# EAGLE library part 99 (library display-lcd-lxd)
20 Dot-Matrix Digit, .30" (7.62) Multiplexed Display Additional Descriptors: none
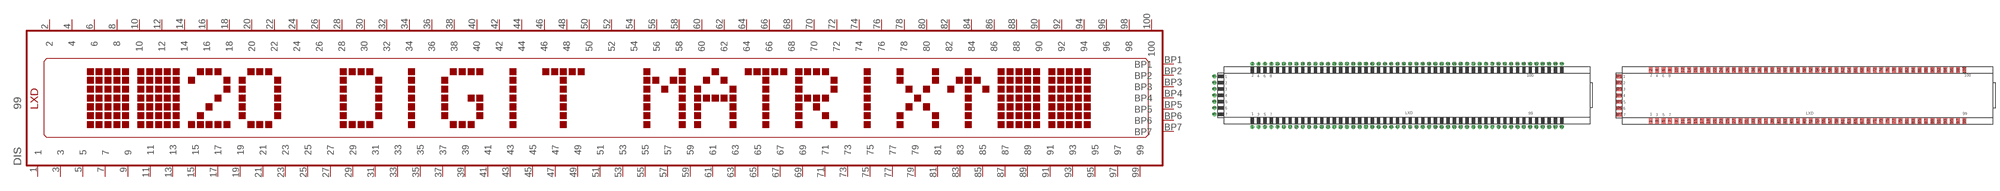
[diagram p42: symbol with the pads of 99-D; footprints 99-D, 99-E]

Designator prefix DIS

## 99DIP  [99-D]
1  1  pas
2  2  pas
3  3  pas
4  4  pas
5  5  pas
6  6  pas
7  7  pas
8  8  pas
9  9  pas
10  10  pas
11  11  pas
12  12  pas
13  13  pas
14  14  pas
15  15  pas
16  16  pas
17  17  pas
18  18  pas
19  19  pas
20  20  pas
21  21  pas
22  22  pas
23  23  pas
24  24  pas
25  25  pas
26  26  pas
27  27  pas
28  28  pas
29  29  pas
30  30  pas
31  31  pas
32  32  pas
33  33  pas
34  34  pas
35  35  pas
36  36  pas
37  37  pas
38  38  pas
39  39  pas
40  40  pas
41  41  pas
42  42  pas
43  43  pas
44  44  pas
45  45  pas
46  46  pas
47  47  pas
48  48  pas
49  49  pas
50  50  pas
51  51  pas
52  52  pas
53  53  pas
54  54  pas
55  55  pas
56  56  pas
57  57  pas
58  58  pas
59  59  pas
60  60  pas
61  61  pas
62  62  pas
63  63  pas
64  64  pas
65  65  pas
66  66  pas
67  67  pas
68  68  pas
69  69  pas
70  70  pas
71  71  pas
72  72  pas
73  73  pas
74  74  pas
75  75  pas
76  76  pas
77  77  pas
78  78  pas
79  79  pas
80  80  pas
81  81  pas
82  82  pas
83  83  pas
84  84  pas
85  85  pas
86  86  pas
87  87  pas
88  88  pas
89  89  pas
90  90  pas
91  91  pas
92  92  pas
93  93  pas
94  94  pas
95  95  pas
96  96  pas
97  97  pas
98  98  pas
99  99  pas
100  100  pas
BP1  BP1  pas
BP2  BP2  pas
BP3  BP3  pas
BP4  BP4  pas
BP5  BP5  pas
BP6  BP6  pas
BP7  BP7  pas

## 99SMD  [99-E]
Pads as for 99-D

## Footprint 99-D (pad centres in mm)
Glass Size: 5.90" x 0.90" &nbsp &nbsp &nbsp &nbsp &nbsp &nbsp &nbsp &nbsp &nbsp (149.86 x 22.86)
drill 0.813 pad 1.6: 1 -62.23,-12.7; BP1 -77.47,7.62
drill 0.813 pad 1.6 octagon: 2 -62.23,12.7; 3 -59.69,-12.7; 4 -59.69,12.7; 5 -57.15,-12.7; 6 -57.15,12.7; 7 -54.61,-12.7; 8 -54.61,12.7; 9 -52.07,-12.7; 10 -52.07,12.7; 11 -49.53,-12.7; 12 -49.53,12.7; 13 -46.99,-12.7; 14 -46.99,12.7; 15 -44.45,-12.7; 16 -44.45,12.7; 17 -41.91,-12.7; 18 -41.91,12.7; 19 -39.37,-12.7; 20 -39.37,12.7; 21 -36.83,-12.7; 22 -36.83,12.7; 23 -34.29,-12.7; 24 -34.29,12.7; 25 -31.75,-12.7; 26 -31.75,12.7; 27 -29.21,-12.7; 28 -29.21,12.7; 29 -26.67,-12.7; 30 -26.67,12.7; 31 -24.13,-12.7; 32 -24.13,12.7; 33 -21.59,-12.7; 34 -21.59,12.7; 35 -19.05,-12.7; 36 -19.05,12.7; 37 -16.51,-12.7; 38 -16.51,12.7; 39 -13.97,-12.7; 40 -13.97,12.7; 41 -11.43,-12.7; 42 -11.43,12.7; 43 -8.89,-12.7; 44 -8.89,12.7; 45 -6.35,-12.7; 46 -6.35,12.7; 47 -3.81,-12.7; 48 -3.81,12.7; 49 -1.27,-12.7; 50 -1.27,12.7; 51 1.27,-12.7; 52 1.27,12.7; 53 3.81,-12.7; 54 3.81,12.7; 55 6.35,-12.7; 56 6.35,12.7; 57 8.89,-12.7; 58 8.89,12.7; 59 11.43,-12.7; 60 11.43,12.7; 61 13.97,-12.7; 62 13.97,12.7; 63 16.51,-12.7; 64 16.51,12.7; 65 19.05,-12.7; 66 19.05,12.7; 67 21.59,-12.7; 68 21.59,12.7; 69 24.13,-12.7; 70 24.13,12.7; 71 26.67,-12.7; 72 26.67,12.7; 73 29.21,-12.7; 74 29.21,12.7; 75 31.75,-12.7; 76 31.75,12.7; 77 34.29,-12.7; 78 34.29,12.7; 79 36.83,-12.7; 80 36.83,12.7; 81 39.37,-12.7; 82 39.37,12.7; 83 41.91,-12.7; 84 41.91,12.7; 85 44.45,-12.7; 86 44.45,12.7; 87 46.99,-12.7; 88 46.99,12.7; 89 49.53,-12.7; 90 49.53,12.7; 91 52.07,-12.7; 92 52.07,12.7; 93 54.61,-12.7; 94 54.61,12.7; 95 57.15,-12.7; 96 57.15,12.7; 97 59.69,-12.7; 98 59.69,12.7; 99 62.23,-12.7; 100 62.23,12.7; BP2 -77.47,5.08; BP3 -77.47,2.54; BP4 -77.47,0; BP5 -77.47,-2.54; BP6 -77.47,-5.08; BP7 -77.47,-7.62

## Footprint 99-E (pad centres in mm)
Glass Size: 5.90" x 0.90" &nbsp &nbsp &nbsp &nbsp &nbsp &nbsp &nbsp &nbsp &nbsp (149.86 x 22.86)
smd 1.524 x 2.54: 1 -62.23,-10.16; 2 -62.23,10.16; 3 -59.69,-10.16; 4 -59.69,10.16; 5 -57.15,-10.16; 6 -57.15,10.16; 7 -54.61,-10.16; 8 -54.61,10.16; 9 -52.07,-10.16; 10 -52.07,10.16; 11 -49.53,-10.16; 12 -49.53,10.16; 13 -46.99,-10.16; 14 -46.99,10.16; 15 -44.45,-10.16; 16 -44.45,10.16; 17 -41.91,-10.16; 18 -41.91,10.16; 19 -39.37,-10.16; 20 -39.37,10.16; 21 -36.83,-10.16; 22 -36.83,10.16; 23 -34.29,-10.16; 24 -34.29,10.16; 25 -31.75,-10.16; 26 -31.75,10.16; 27 -29.21,-10.16; 28 -29.21,10.16; 29 -26.67,-10.16; 30 -26.67,10.16; 31 -24.13,-10.16; 32 -24.13,10.16; 33 -21.59,-10.16; 34 -21.59,10.16; 35 -19.05,-10.16; 36 -19.05,10.16; 37 -16.51,-10.16; 38 -16.51,10.16; 39 -13.97,-10.16; 40 -13.97,10.16; 41 -11.43,-10.16; 42 -11.43,10.16; 43 -8.89,-10.16; 44 -8.89,10.16; 45 -6.35,-10.16; 46 -6.35,10.16; 47 -3.81,-10.16; 48 -3.81,10.16; 49 -1.27,-10.16; 50 -1.27,10.16; 51 1.27,-10.16; 52 1.27,10.16; 53 3.81,-10.16; 54 3.81,10.16; 55 6.35,-10.16; 56 6.35,10.16; 57 8.89,-10.16; 58 8.89,10.16; 59 11.43,-10.16; 60 11.43,10.16; 61 13.97,-10.16; 62 13.97,10.16; 63 16.51,-10.16; 64 16.51,10.16; 65 19.05,-10.16; 66 19.05,10.16; 67 21.59,-10.16; 68 21.59,10.16; 69 24.13,-10.16; 70 24.13,10.16; 71 26.67,-10.16; 72 26.67,10.16; 73 29.21,-10.16; 74 29.21,10.16; 75 31.75,-10.16; 76 31.75,10.16; 77 34.29,-10.16; 78 34.29,10.16; 79 36.83,-10.16; 80 36.83,10.16; 81 39.37,-10.16; 82 39.37,10.16; 83 41.91,-10.16; 84 41.91,10.16; 85 44.45,-10.16; 86 44.45,10.16; 87 46.99,-10.16; 88 46.99,10.16; 89 49.53,-10.16; 90 49.53,10.16; 91 52.07,-10.16; 92 52.07,10.16; 93 54.61,-10.16; 94 54.61,10.16; 95 57.15,-10.16; 96 57.15,10.16; 97 59.69,-10.16; 98 59.69,10.16; 99 62.23,-10.16; 100 62.23,10.16
smd 2.54 x 1.524: BP1 -74.93,7.62; BP2 -74.93,5.08; BP3 -74.93,2.54; BP4 -74.93,0; BP5 -74.93,-2.54; BP6 -74.93,-5.08; BP7 -74.93,-7.62